# Altium footprint library SOP65P490X110-9L30T157X189N.PcbLib: 1 footprints
Each footprint in its own frame and in the unit in brackets; x right, y up, seen from the top. Pads: shape width x height; smd on the part's side, far side on the other; paste and mask are expansions set on the pad; w line width, h text height; cw(c..) or ccw(c..) is an arc to the next point about the centre after c.
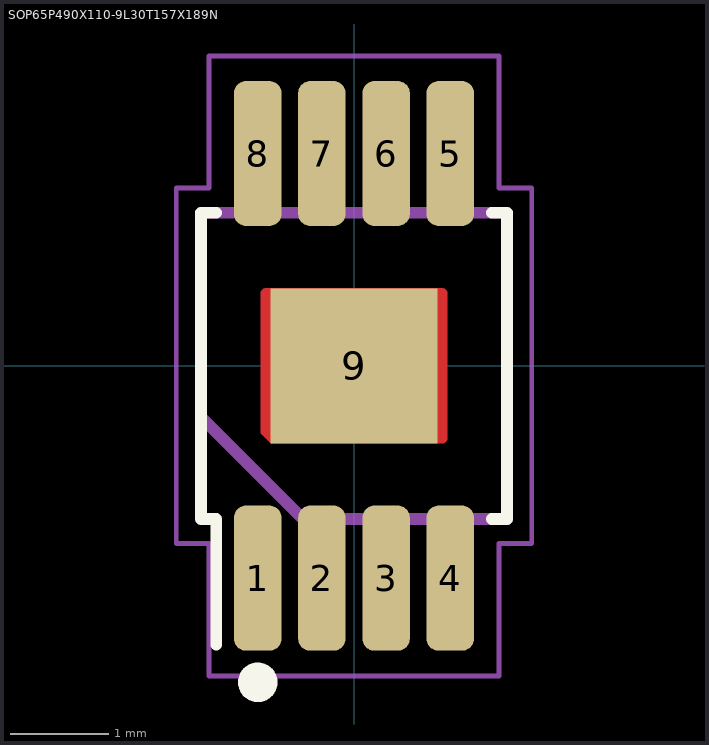
[diagram p0: the footprint, top view; thin cyan lines are the x and y axes]

## SOP65P490X110-9L30T157X189N [mm] "Small Outline Pkg (SOP with Tab), 0.65 mm pitch; 8 pin, 3.00 mm L X 3.00 mm W X 1.10 mm H body"
height 1.1
pads (9):
  rrect50% 0.48x1.47 smd: 1(-0.975,-2.15) 2(-0.325,-2.15) 3(0.325,-2.15) 4(0.975,-2.15) 5(0.975,2.15) 6(0.325,2.15) 7(-0.325,2.15) 8(-0.975,2.15)
  rect 1.69x1.57 smd paste-1.69 mask+0: 9(0,0)
Top Layer:
  region: 0.945,0 0.945,-0.735 0.944,-0.743 0.943,-0.75 0.94,-0.758 0.935,-0.764 0.93,-0.77 0.924,-0.776 0.918,-0.78 0.911,-0.783 0.903,-0.784 -0.845,-0.785 -0.945,-0.685 -0.945,0.735 -0.944,0.743 -0.943,0.75 -0.94,0.758 -0.935,0.764 -0.93,0.77 -0.924,0.776 -0.918,0.78 -0.911,0.783 -0.903,0.784 0.895,0.785 0.903,0.784 0.911,0.783 0.918,0.78 0.924,0.776 0.93,0.77 0.935,0.764 0.94,0.758 0.943,0.75 0.944,0.743 0.945,0.735
Top Overlay:
  circle w0.2: c-0.975,-3.205 r0.1
  lines w0.12: -1.395,-2.825 -1.395,-1.55 -1.55,-1.55 -1.55,1.55 -1.395,1.55 ; 1.395,-1.55 1.55,-1.55 1.55,1.55 1.395,1.55
Top Paste:
  region: 0.775,-0.615 0.085,-0.615 0.085,-0.085 0.775,-0.085
  region: 0.775,0.085 0.085,0.085 0.085,0.615 0.775,0.615
  region: -0.085,-0.615 -0.775,-0.615 -0.775,-0.085 -0.085,-0.085
  region: -0.085,0.085 -0.775,0.085 -0.775,0.615 -0.085,0.615
Top Solder:
  region: 0.945,0 0.945,-0.735 0.944,-0.743 0.943,-0.75 0.94,-0.758 0.935,-0.764 0.93,-0.77 0.924,-0.776 0.918,-0.78 0.911,-0.783 0.903,-0.784 -0.845,-0.785 -0.945,-0.685 -0.945,0.735 -0.944,0.743 -0.943,0.75 -0.94,0.758 -0.935,0.764 -0.93,0.77 -0.924,0.776 -0.918,0.78 -0.911,0.783 -0.903,0.784 0.895,0.785 0.903,0.784 0.911,0.783 0.918,0.78 0.924,0.776 0.93,0.77 0.935,0.764 0.94,0.758 0.943,0.75 0.944,0.743 0.945,0.735
Mechanical 11:
  lines w0.12: -1.55,-0.517 -0.517,-1.55 1.55,-1.55 1.55,1.55 -1.55,1.55 -1.55,-0.517
Mechanical 15:
  circle w0.05: c0,0 r0.25
  lines w0.05: -0.35,0 0.35,0 ; 0,-0.35 0,0.35 ; -1.8,-1.8 -1.47,-1.8 -1.47,-3.14 1.47,-3.14 1.47,-1.8 1.8,-1.8 1.8,1.8 1.47,1.8 1.47,3.14 -1.47,3.14 -1.47,1.8 -1.8,1.8 -1.8,-1.8
3D body: height 1.1, standoff 0, extent -1.5,-2.46 1.5,2.46